# Altium schematic symbol library SiLPA_own.SCHLIB: 13 symbols
Pins are listed as number, name and electrical type; pins without a type are passive.

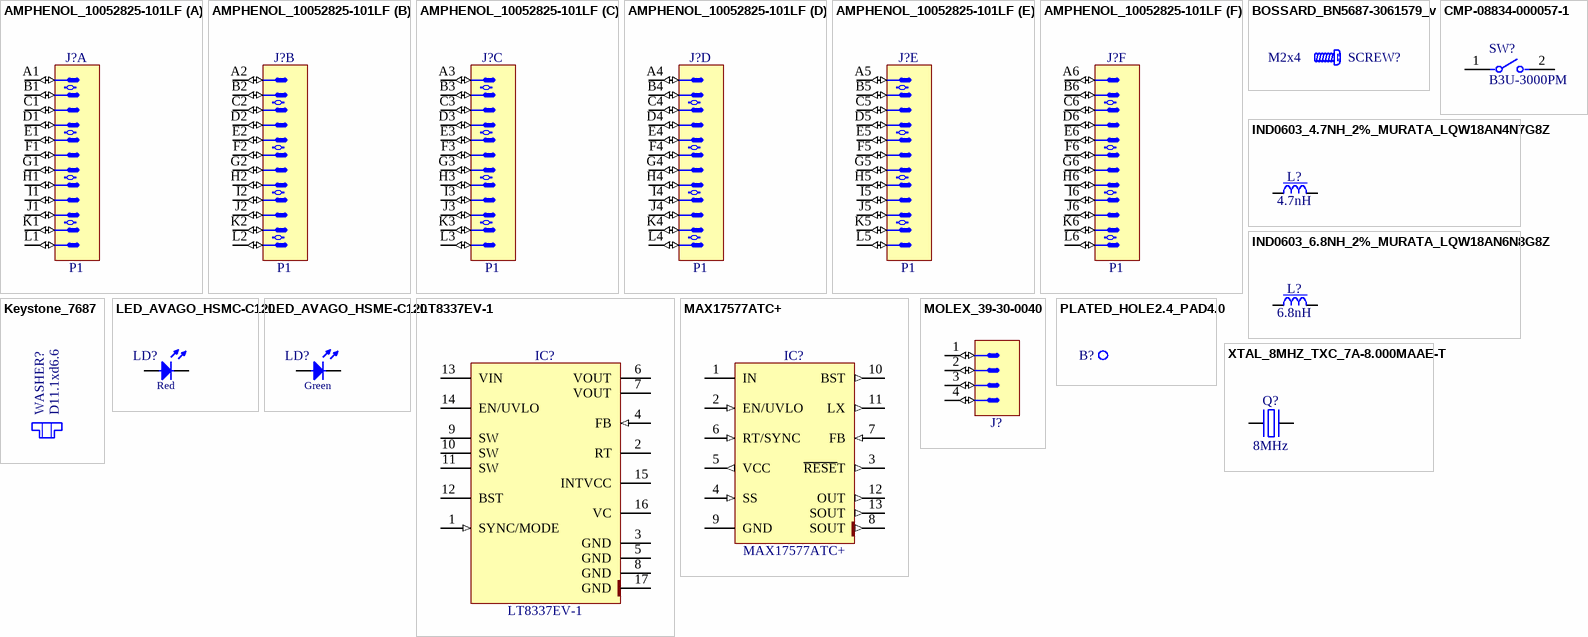
[diagram p0: symbols AMPHENOL_10052825-101LF to XTAL_8MHZ_TXC_7A-8.000MAAE-T]

## AMPHENOL_10052825-101LF
designator J?, comment P1
72 Contacts Header, 6 Columns, 4 Pairs per Column; Part Number: AMPHENOL_10052825-101LF; Part Description: 72 Contacts, 2mm Pitch, 6 Columns, 4 Pairs per Column, 4 Walls, Right Angle Header; Manufacturer: AMPHENOL; Manufacturer Part Number: 10052825-101LF; Component Kind: Standard; Component Type: Standard; Footprint: AMPHENOL_10052825-101LF; Pin Count: 72; Family: AirMax VS; Mounted: Yes; Socket: No; SMD: No; PressFit: Yes; Sense: No; Status: None; ComponentHeight: 15.35mm; HelpURL: \\cern.ch\dfs\Applications\Altium\Datasheets\AMPHENOL_10052825-101LF.pdf; ComponentLink1URL: \\cern.ch\dfs\Applications\Altium\Datasheets\AMPHENOL_10052825-101LF_Application.pdf; ComponentLink1Description: Application; Author: CERN DEM MR; CreateDate: 19/02/2018; LatestRevisionDate: 19/02/2018; Classname: Overlapping
footprint AMPHENOL_10052825-101LF
part A pins: A1 (io), B1 (io), C1 (io), D1 (io), E1 (io), F1 (io), G1 (io), H1 (io), I1 (io), J1 (io), K1 (io), L1 (io)
part B pins: A2 (io), B2 (io), C2 (io), D2 (io), E2 (io), F2 (io), G2 (io), H2 (io), I2 (io), J2 (io), K2 (io), L2 (io)
part C pins: A3 (io), B3 (io), C3 (io), D3 (io), E3 (io), F3 (io), G3 (io), H3 (io), I3 (io), J3 (io), K3 (io), L3 (io)
part D pins: A4 (io), B4 (io), C4 (io), D4 (io), E4 (io), F4 (io), G4 (io), H4 (io), I4 (io), J4 (io), K4 (io), L4 (io)
part E pins: A5 (io), B5 (io), C5 (io), D5 (io), E5 (io), F5 (io), G5 (io), H5 (io), I5 (io), J5 (io), K5 (io), L5 (io)
part F pins: A6 (io), B6 (io), C6 (io), D6 (io), E6 (io), F6 (io), G6 (io), H6 (io), I6 (io), J6 (io), K6 (io), L6 (io)
1 alternate drawing of the same symbol

## BOSSARD_BN5687-3061579_v
designator SCREW?, comment M2x4
Screw; Part Number: BOSSARD_BN5687-3061579_v; Part Description: M2 L=4mm Hexalobular Socket Pan Head Screw, Fully Threaded, Stainless Steel A2; Manufacturer: BOSSARD; Manufacturer Part Number: BN5687 Art.3061579; PressFit: No; Component Kind: Standard; Component Type: Mechanical; Footprint: BOSSARD_BN5687-3061579_v; Pin Count: 0; PackageDescription: M2 L=4mm Hexalobular Socket Pan Head Screw, Fully Threaded - Stainless Steel A2; Mounted: Yes; Socket: No; SMD: No; Sense: No; Status: None; Value: M2x4; ComponentHeight: 5.6mm; HelpURL: \\cern.ch\dfs\Applications\Altium\Datasheets\BOSSARD_BN5687-3061579.pdf; Author: CERN DEM JLC; CreateDate: 01.11.2018; LatestRevisionDate: 01.11.2018
footprint BOSSARD_BN5687-3061579_v (M2 L=4mm Hexalobular Socket Pan Head Screw, Fully Threaded - Stainless Steel A2)

## CMP-08834-000057-1
designator SW?, comment B3U-3000PM
SWITCH TACTILE SPST-NO 0.05A 12V; Connector Type: SMD/SMT; Switch Travel: 0.2mm; Throw Configuration: SPST; Illumination Type: Non-Illuminated; Mechanical Life: 100000Cycles; Actuator Length: 0.7mm; Switch Function: Off-Mom; Ratings: Dust Proof; Operating Force: 1.59N; Max Current Rating: 50mA; Contact Resistance: 100mR; Termination: Gull Wing; Packaging: Tape and Reel; Case/Package: SMD/SMT; Orientation: Right Angle; Package Quantity: 1000; Mount: Surface Mount; Series: B3U; Max Voltage Rating (DC): 12V; Depth: 3.2mm; Max Operating Temperature: 70°C; RoHS Compliant: Yes; Weight: 0.022g; Min Operating Temperature: -25°C; Electrical Life: 100000Cycles; Current Rating: 50mA; Length: 4mm; Voltage Rating (DC): 12V
footprint FP-B3U-3000PM-MFG
pins: 1, 2

## IND0603_4.7NH_2%_MURATA_LQW18AN4N7G8Z
designator L?, comment 4.7nH
Inductor With Core; Part Number: IND0603_4.7NH_2%_MURATA_LQW18AN4N7G8Z; Part Description: Wirw Wond RF Inductor For Automotive; Manufacturer: MURATA; Manufacturer Part Number: LQW18AN4N7G8Z; Power: 1.5A; Resistance: 0R054; Tolerance: ±2%; Component Kind: Standard; Component Type: Standard; Footprint: IND_MURATA_LQW18AN_G8; Pin Count: 2; Value: 4.7nH; Status: None; Case: 0603; Mounted: Yes; Socket: No; SMD: Yes; Sense: No; ComponentHeight: 1mm; HelpURL: \\cern.ch\dfs\Applications\Altium\Datasheets\IND_MURATA_LQW18AN4N7G8Z.pdf; Author: CERN DEM BC; CreateDate: 26.08.2019; LatestRevisionDate: 26.08.2019
footprint IND_MURATA_LQW18AN_G8
pins: 1, 2

## IND0603_6.8NH_2%_MURATA_LQW18AN6N8G8Z
designator L?, comment 6.8nH
Inductor With Core; Part Number: IND0603_6.8NH_2%_MURATA_LQW18AN6N8G8Z; Part Description: Wirw Wond RF Inductor For Automotive; Manufacturer: MURATA; Manufacturer Part Number: LQW18AN6N8G8Z; Power: 1.9A; Resistance: 0R04; Tolerance: ±2%; Component Kind: Standard; Component Type: Standard; Footprint: IND_MURATA_LQW18AN_G8; Pin Count: 2; Value: 6.8nH; Status: None; Case: 0603; Mounted: Yes; Socket: No; SMD: Yes; Sense: No; ComponentHeight: 1mm; HelpURL: \\cern.ch\dfs\Applications\Altium\Datasheets\IND_MURATA_LQW18AN6N8G8Z.pdf; Author: CERN DEM BC; CreateDate: 26.08.2019; LatestRevisionDate: 26.08.2019
footprint IND_MURATA_LQW18AN_G8
pins: 1, 2

## Keystone_7687
designator WASHER?, comment D11.1xd6.6
SMA_Shoulder Washer; Part Number: custom 3D; Part Description: Polyphenylene Sulfide PPS Shoulder Washer; PressFit: No; Component Kind: Standard; Component Type: Mechanical; Footprint: custom 3D; Pin Count: 0; PackageDescription: Polyphenylene Sulfide PPS Shoulder Washer; Mounted: Yes; Socket: No; SMD: No; Sense: No; Status: None; Value: D11.1xd6.6; Manufacturer: custom 3D; Manufacturer Part Number: custom 3D; ComponentHeight: 1.91mm; HelpURL: \\cern.ch\dfs\Applications\Altium\Datasheets\AAVID-THERMALLOY_7721-7PPSG.pdf; Author: GK; CreateDate: 28.01.2016; LatestRevisionDate: 28.01.2016
footprint Keystone_7687 (Polyphenylene Sulfide PPS Shoulder Washer)

## LED_AVAGO_HSMC-C120
designator LD?, comment Red
LED Red 1C 2A; Part Number: LED_AVAGO_HSMC-C120; Part Description: High Performance Right Angle Chip Red LED; Manufacturer: AVAGO TECHNOLOGIES; Manufacturer Part Number: HSMC-C120; PressFit: No; Bonding: No; Component Kind: Standard; Component Type: Standard; Color: Red; Footprint: LED_AVAGO_HSMC-C120; PackageDescription: Red Chip LED, 2-Leads, Body 1.7x1.1mm, Side Emitting Package; Pin Count: 2; Mounted: Yes; Socket: No; SMD: Yes; Sense: No; ComponentHeight: 0.7mm; HelpURL: \\cern.ch\dfs\Applications\Altium\Datasheets\LED_AVAGO_HSMC-C120.pdf; ComponentLink1URL: \\cern.ch\dfs\Applications\Altium\Datasheets\LED_AVAGO_HSMC-C120_DESIGN-GUIDE.pdf; ComponentLink1Description: Design Guide; Author: CERN DEM JMW; CreateDate: 22.07.2009; LatestRevisionDate: 20.06.2012
footprint LED_AVAGO_HSMC-C120 (Red Chip LED, 2-Leads, Body 1.7x1.1mm, Side Emitting Package)
pins: 1 C, 2 A
1 alternate drawing of the same symbol

## LED_AVAGO_HSME-C120
designator LD?, comment Green
LED Green 1C 2A; Part Number: LED_AVAGO_HSME-C120; Part Description: High Performance Right Angle Chip Green LED; Manufacturer: AVAGO TECHNOLOGIES; Manufacturer Part Number: HSME-C120; PressFit: No; Bonding: No; Component Kind: Standard; Component Type: Standard; Color: Green; Footprint: LED_AVAGO_HSME-C120; PackageDescription: Green Chip LED, 2-Leads, Body 1.7x1.1mm, Side Emitting Package; Pin Count: 2; Mounted: Yes; Socket: No; SMD: Yes; Sense: No; ComponentHeight: 0.7mm; HelpURL: \\cern.ch\dfs\Applications\Altium\Datasheets\LED_AVAGO_HSME-C120.pdf; ComponentLink1URL: \\cern.ch\dfs\Applications\Altium\Datasheets\LED_AVAGO_HSME-C110_DESIGN-GUIDE.pdf; ComponentLink1Description: Design Guide; Author: CERN DEM JMW; CreateDate: 22.07.2009; LatestRevisionDate: 20.06.2012
footprint LED_AVAGO_HSME-C120 (Green Chip LED, 2-Leads, Body 1.7x1.1mm, Side Emitting Package)
pins: 1 C, 2 A
1 alternate drawing of the same symbol

## LT8337EV-1
designator IC?
28V, 5A Low IQ Synchronous Step-Up Silent Switcher with PassThru; Manufacturer: ANALOG DEVICES; PressFit: No; Bonding: No; Part Number: LT8337EV-1; Component Kind: Standard; Component Type: Standard; Device: LT8337EV-1; Footprint: ANALOG-DEVICES_LQFN(16) # 05-08-1798; PackageDescription: LQFN, 16-Lead, 0.50mm Pitch; 3.50mm W X 3.50mm L X 0.83mm H body (with 4 Tab 0.375 X0.375mm and with a Thermal Tab 1.43 X1.43mm)# 05-08-1798; Part Description: 28V, 5A Low IQ Synchronous Step-Up Silent Switcher with PassThru; Manufacturer Part Number: LT8337EV-1; Pin Count: 21; Case: QFN16; Mounted: Yes; Socket: No; SMD: Yes; Sense: No; ComponentHeight: 1.03mm; HelpURL: \\cern.ch\dfs\Applications\Altium\Datasheets\LT8337.pdf; Author: CERN DEM HF; CreateDate: 07.09.2022; LatestRevisionDate: 07.09.2022
footprint ANALOG-DEVICES_LQFN(16) # 05-08-1798
pins: 1 SYNC/MODE (in), 2 RT, 3 GND (power), 4 FB (in), 5 GND (power), 6 VOUT (power), 7 VOUT (power), 8 GND (power), 9 SW, 10 SW (power), 11 SW (power), 12 BST, 13 VIN (power), 14 EN/UVLO (power), 15 INTVCC, 16 VC, 17 GND (power)

## MAX17577ATC+
designator IC?
4.5V to 60V, 1A High-Efficiency, Synchronous, Inverting Output DC-DC Converters; Manufacturer: MAXIM; PressFit: No; Bonding: No; Part Number: MAX17577ATC+; Component Kind: Standard; Component Type: Standard; Device: MAX17577ATC+; Footprint: SON50P300X300X80-13N-R180X260; PackageDescription: SON, 0.50mm Pitch, 12-Pin, 3.00mm W  X 3.00mm L X 0.80mm H body, (w/Thermal Tab 1.80 X 2.60mm), IPC Medium Density; Part Description: 4.5V to 60V, 1A High-Efficiency, Synchronous, Inverting Output DC-DC Converters; Manufacturer Part Number: MAX17577ATC+; Pin Count: 13; Case: SON12; Mounted: Yes; Socket: No; SMD: Yes; Sense: No; ComponentHeight: 0.8mm; HelpURL: \\cern.ch\dfs\Applications\Altium\Datasheets\MAX17577ATC+.pdf; Author: CERN DEM HF; CreateDate: 22.10.2021; LatestRevisionDate: 22.10.2021
footprint SON50P300X300X80-13N-R180X260 (SON, 0.50mm Pitch, 12-Pin, 3.00mm W  X 3.00mm L X 0.80mm Height, (w/Thermal Tab 1.8 X 2.6 mm), IPC Medium Density)
pins: 1 IN (power) "Input-Power Ground Return", 2 EN/UVLO (in) "Positive Power Input", 3 ~{RESE}T (out), 4 SS (in), 5 VCC (out) "Signal Ground Return", 6 RT/SYNC (in) "Remote Adjust Input", 7 FB (in), 8 SOUT (out) "HV Ground Return", 9 GND (power) "Eout Monitor", 10 BST (out) "HV Output", 11 LX (out) "HV Output", 12 OUT (out), 13 SOUT (out)

## MOLEX_39-30-0040
designator J?, comment Mini-Fit Jr.™  (value not drawn)
Connector 4 Male; Part Number: MOLEX_39-30-0040; Part Description: 4.20mm (.165") Pitch Mini-Fit Jr. Header, Dual Row, Right Angle with Snap-in Plastic Peg PCB Lock, 4 Circuits; Manufacturer: MOLEX; PressFit: No; Component Kind: Standard; Component Type: Standard; Footprint: MOLEX_39-30-0040; Pin Count: 4; Family: Mini-Fit Jr.™; Mounted: Yes; Socket: No; SMD: No; Sense: No; Status: None; Manufacturer Part Number: 39-30-0040; ComponentHeight: 11.4mm; HelpURL: \\cern.ch\dfs\Applications\Altium\Datasheets\MOLEX_39-30-0040.pdf; Author: CERN DEM JLC; CreateDate: 2018-10-02; LatestRevisionDate: 2018-10-02
footprint MOLEX_39-30-0040 (4.20mm (.165") Pitch Mini-Fit Jr. Header, Dual Row, Right Angle with Snap-in Plastic Peg PCB Lock, 4 Circuits)
pins: 1 (io), 2 (io), 3 (io), 4 (io)
1 alternate drawing of the same symbol

## PLATED_HOLE2.4_PAD4.0
designator B?, comment Plated Hole  (value not drawn)  (no BOM)
Single Terminal Socket; Part Number: PLATED_HOLE2.4_PAD4.0; Part Description: Plated Through Hole: Hole Dia.=2.4mm Pad Dia.=4.0mm; Mounted: No; Component Type: Standard (No BOM); Footprint: MTG240_400; Pin Count: 1; Family: Plated Hole; Socket: No; SMD: No; Sense: No; Status: None; ComponentHeight: 0mm; HelpURL: Undefined; Author: CERN DEM JMW; CreateDate: 10.10.2011; LatestRevisionDate: 10.10.2011; PackageDescription: Plated Through Hole: Hole Dia.=2.4mm Pad Dia.=4.0mm
footprint MTG240_400
pins: 1 (io)

## XTAL_8MHZ_TXC_7A-8.000MAAE-T
designator Q?, comment 8MHz
Quartz Crystal; Part Number: XTAL_8MHZ_TXC_7A-8.000MAAE-T; Part Description: Tolerance: ±30ppm, Stability: ±30ppm, -20°C to +70°C, 12pF, SMD Glass Seam Sealing Crystal, 7A Series; Manufacturer: TXC CORPORATION; Manufacturer Part Number: 7A-8.000MAAE-T; PressFit: No; Bonding: No; Component Kind: Standard; Component Type: Standard; Footprint: XTAL_TXC_7A; PackageDescription: 2 Pins, 3.2x5mm, SMD Glass Seam Sealing Crystal, 7A Serie; Value: 8MHz; Pin Count: 2; Mounted: Yes; Socket: No; SMD: Yes; Sense: No; ComponentHeight: 1.2mm; HelpURL: \\cern.ch\dfs\Applications\Altium\Datasheets\XTAL_TXC_7A.pdf; Author: CERN DEM JLC; CreateDate: 09.10.2014; LatestRevisionDate: 12.11.2014
footprint XTAL_TXC_7A
pins: 1 OSC1, 2 OSC2